# Altium schematic symbol library TVS-2.SCHLIB: 1 symbol
Pins are listed as number, name and electrical type; pins without a type are passive.

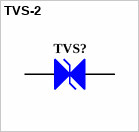
[diagram p0: symbol TVS-2]

## TVS-2
designator TVS?
pins: 1, 2